# Altium footprint library DIP794W45P254L1930H508Q16.PcbLib: 2 footprints
Each footprint in its own frame and in the unit in brackets; x right, y up, seen from the top. Pads: shape width x height; smd on the part's side, far side on the other; paste and mask are expansions set on the pad; w line width, h text height; cw(c..) or ccw(c..) is an arc to the next point about the centre after c.
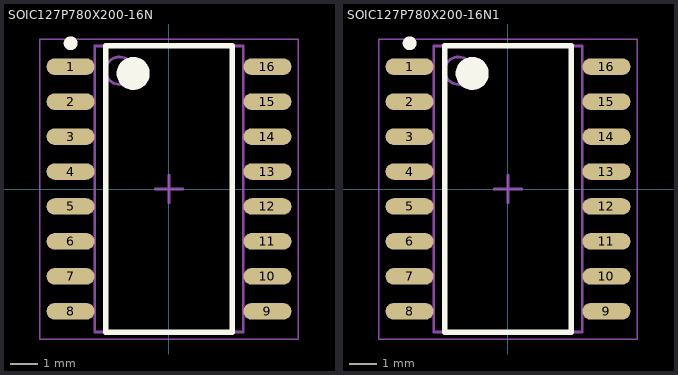
[diagram p0: the footprints below, top view; thin cyan lines are the x and y axes]

## SOIC127P780X200-16N [mm] "SOIC, 16-Leads, Body 10.20x5.30mm, Pitch 1.27mm, IPC Medium Density"
height 2
pads (16):
  oval 1.75x0.6 smd: 1(-3.575,4.445) 2(-3.575,3.175) 3(-3.575,1.905) 4(-3.575,0.635) 5(-3.575,-0.635) 6(-3.575,-1.905) 7(-3.575,-3.175) 8(-3.575,-4.445) 9(3.575,-4.445) 10(3.575,-3.175) 11(3.575,-1.905) 12(3.575,-0.635) 13(3.575,0.635) 14(3.575,1.905) 15(3.575,3.175) 16(3.575,4.445)
Top Overlay:
  circle w0.6: c-1.3,4.2 r0.3
  circle w0.25: c-3.575,5.295 r0.125
  lines w0.2: -2.3,-5.2 2.3,-5.2 2.3,5.2 -2.3,5.2 -2.3,-5.2
Mechanical 13:
  circle w0.1: c-1.8,4.3 r0.5
  lines w0.1: -2.7,-5.2 2.7,-5.2 2.7,5.2 -2.7,5.2 -2.7,-5.2
Mechanical 15:
  lines w0.05: -4.7,-5.45 4.7,-5.45 4.7,5.45 -4.7,5.45 -4.7,-5.45
  lines w0.1: -0.5,0 0.5,0 ; 0,-0.5 0,0.5
3D body "SO16 Medium 5.28mm.step": height 1.78, standoff -0.25, extent -4.13,-5.205 4.13,5.205

## SOIC127P780X200-16N1 [mm] "SOIC, 16-Leads, Body 10.20x5.30mm, Pitch 1.27mm, IPC Medium Density"
height 2
pads (16):
  oval 1.75x0.6 smd: 1(-3.575,4.445) 2(-3.575,3.175) 3(-3.575,1.905) 4(-3.575,0.635) 5(-3.575,-0.635) 6(-3.575,-1.905) 7(-3.575,-3.175) 8(-3.575,-4.445) 9(3.575,-4.445) 10(3.575,-3.175) 11(3.575,-1.905) 12(3.575,-0.635) 13(3.575,0.635) 14(3.575,1.905) 15(3.575,3.175) 16(3.575,4.445)
Top Overlay:
  circle w0.6: c-1.3,4.2 r0.3
  circle w0.25: c-3.575,5.295 r0.125
  lines w0.2: -2.3,-5.2 2.3,-5.2 2.3,5.2 -2.3,5.2 -2.3,-5.2
Mechanical 13:
  circle w0.1: c-1.8,4.3 r0.5
  lines w0.1: -2.7,-5.2 2.7,-5.2 2.7,5.2 -2.7,5.2 -2.7,-5.2
Mechanical 15:
  lines w0.05: -4.7,-5.45 4.7,-5.45 4.7,5.45 -4.7,5.45 -4.7,-5.45
  lines w0.1: -0.5,0 0.5,0 ; 0,-0.5 0,0.5
3D body "SO16 Medium 5.28mm.step": height 2.03, standoff 0, extent -4.13,-5.205 4.13,5.205